# Altium footprint library Headers_Connectors.PcbLib: 45 footprints (part 3 of 3)
Each footprint in its own frame and in the unit in brackets; x right, y up, seen from the top. Pads: shape width x height; smd on the part's side, far side on the other; paste and mask are expansions set on the pad; w line width, h text height; cw(c..) or ccw(c..) is an arc to the next point about the centre after c.
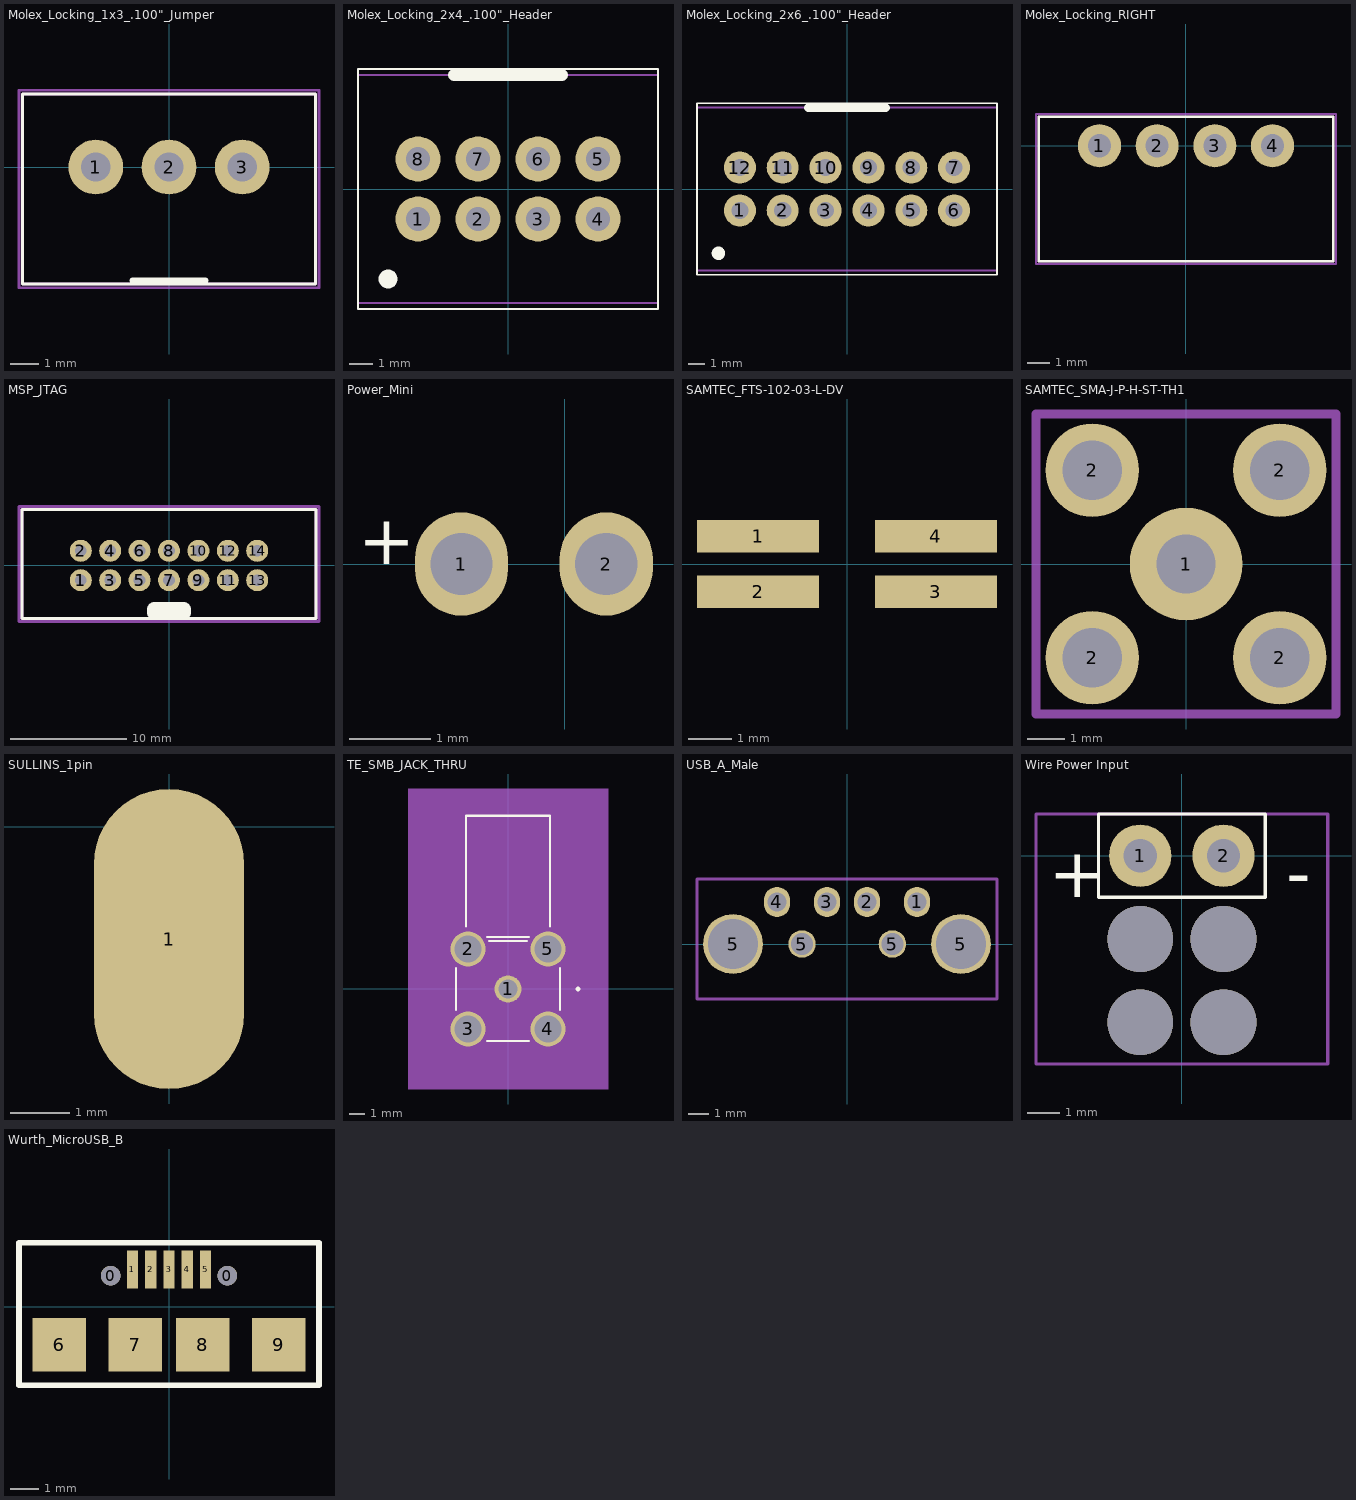
[diagram p2: the footprints below, top view; thin cyan lines are the x and y axes]

## Molex_Locking_1x3_.100"_Jumper [mm]
pads (3):
  round 1.9 hole 1.02: 1(-2.54,0) 2(0,0) 3(2.54,0)
Top Overlay:
  lines w0.1: -5.08,-4.064 5.08,-4.064 5.08,2.54 -5.08,2.54 -5.08,-4.064
  lines w0.2: -1.27,-3.937 1.27,-3.937
Mechanical 13:
  lines w0.1: -5.08,-4.064 5.08,-4.064 5.08,2.54 -5.08,2.54 -5.08,-4.064
Mechanical 15:
  lines w0.1: -5.207,-4.191 -5.207,2.667 5.207,2.667 5.207,-4.191 -5.207,-4.191
3D body "Molex_Locking_.100_3x1.stp": height 11.81, standoff -3.3, extent -5.08,-4.064 5.08,2.54

## Molex_Locking_2x4_.100"_Header [mm]
pads (8):
  round 1.9 hole 1.02: 1(-3.81,-1.27) 2(-1.27,-1.27) 3(1.27,-1.27) 4(3.81,-1.27) 5(3.81,1.27) 6(1.27,1.27) 7(-1.27,1.27) 8(-3.81,1.27)
Top Overlay:
  circle w0.4: c-5.08,-3.81 r0.2
  lines w0.1: -6.35,-5.08 -6.35,5.08 6.35,5.08 6.35,-5.08 -6.35,-5.08
  lines w0.508: -2.286,4.826 2.286,4.826
Mechanical 13:
  lines w0.1: -6.35,-4.826 -6.35,4.826 6.35,4.826 6.35,-4.826 -6.35,-4.826
Mechanical 15:
  lines w0.1: -6.35,-4.826 6.35,-4.826 6.35,4.826 -6.35,4.826 -6.35,-4.826
3D body "901301208.stp": height 11.04, standoff -2.76, extent -6.25,-4.875 6.25,4.875

## Molex_Locking_2x6_.100"_Header [mm]
pads (12):
  round 1.9 hole 1.02: 1(-6.35,-1.27) 2(-3.81,-1.27) 3(-1.27,-1.27) 4(1.27,-1.27) 5(3.81,-1.27) 6(6.35,-1.27) 7(6.35,1.27) 8(3.81,1.27) 9(1.27,1.27) 10(-1.27,1.27) 11(-3.81,1.27) 12(-6.35,1.27)
Top Overlay:
  circle w0.4: c-7.62,-3.81 r0.2
  lines w0.1: -8.89,-5.08 -8.89,5.08 8.89,5.08 8.89,-5.08 -8.89,-5.08
  lines w0.508: -2.286,4.826 2.286,4.826
Mechanical 13:
  lines w0.1: -8.89,-4.826 -8.89,4.826 8.89,4.826 8.89,-4.826 -8.89,-4.826
Mechanical 15:
  lines w0.1: -8.89,-4.826 8.89,-4.826 8.89,4.826 -8.89,4.826 -8.89,-4.826
3D body "901301212.stp": height 11.04, standoff -2.76, extent -8.79,-4.875 8.79,4.875

## Molex_Locking_RIGHT [mm]
pads (4):
  round 1.9 hole 1.02: 1(-3.81,0) 2(-1.27,0) 3(1.27,0) 4(3.81,0)
Top Overlay:
  lines w0.1: -6.477,-5.08 -6.477,1.27 6.477,1.27 6.477,-5.08 -6.477,-5.08
Mechanical 13:
  lines w0.1: -6.477,-5.08 -6.477,1.27 6.477,1.27 6.477,-5.08 -6.477,-5.08
Mechanical 15:
  lines w0.1: -6.604,-5.207 6.604,-5.207 6.604,1.397 -6.604,1.397 -6.604,-5.207
3D body "molexLockingRight.stp": height 7.06, standoff -3.22, extent -6.35,-12.827 6.35,0.762

## MSP_JTAG [mm]
pads (14):
  round 1.9 hole 1.02: 1(-7.62,-1.27) 2(-7.62,1.27) 3(-5.08,-1.27) 4(-5.08,1.27) 5(-2.54,-1.27) 6(-2.54,1.27) 7(0,-1.27) 8(0,1.27) 9(2.54,-1.27) 10(2.54,1.27) 11(5.08,-1.27) 12(5.08,1.27) 13(7.62,-1.27) 14(7.62,1.27)
Top Overlay:
  lines w0.254: -12.7,-4.572 12.7,-4.572 12.7,4.826 -12.7,4.826 -12.7,-4.572
  lines w1.27: -1.27,-4.064 -1.27,-3.81 1.27,-3.81 1.27,-4.064
Mechanical 13:
  lines w0.254: -12.7,-4.572 12.7,-4.572 12.7,4.826 -12.7,4.826 -12.7,-4.572
Mechanical 15:
  lines w0.254: -12.954,-4.826 -12.954,5.08 12.954,5.08 12.954,-4.826 -12.954,-4.826
3D body "2x7 .1in header male.stp": height 9.18, standoff -2.93, extent -12.72,-4.425 12.72,4.75

## Power_Mini [mil]
pads (2):
  oval 45x50 hole 30: 1(-50,0) 2(20,0)
Top Overlay:
  text "+" at -100,0 h24

## SAMTEC_FTS-102-03-L-DV [mil] "SAMTEC_FTS"
pads (4):
  rect 110x29 smd: 1(-80,25) 2(-80,-25) 3(80,-25) 4(80,25)
3D body "FTS-102-03-L-DV.stp": height 114, standoff -1, extent -115,-49.99 115,50.01

## SAMTEC_SMA-J-P-H-ST-TH1 [mil]
pads (5):
  round 120 hole 63: 1(0,0)
  round 100 hole 63: 2(-100,-100) 2(-100,100) 2(100,-100) 2(100,100)
Mechanical 1:
  lines w10: -160,-160 160,-160 160,160 -160,160 -160,-160
3D body "SMA-J-P-H-ST-TH1.stp": height 375.98, standoff -155.51, extent -137.79,-137.79 137.8,137.8

## SULLINS_1pin [mm]
pads (1):
  oval 2.54x5.08 smd: 1(0,-1.905)
3D body "_ _C01SABN-M30.STEP": height 10.21, standoff 0, extent -1.27,-4.064 1.27,1.27

## TE_SMB_JACK_THRU [mil] "SMB Connector Jack, Male Pin 50Ohm Through Hole, Right Angle Solder"
height 279.53
pads (5):
  round 67.5 hole 48 mask+0: 1(0,0)
  round 87 hole 67: 2(-100,100) 3(-100,-100) 4(100,-100) 5(100,100)
Top Overlay:
  circle w6: c175,0 r3
  lines w6: -130,-52 -130,52 ; -105,156.38 -105,433.15 105,433.15 105,156.38 ; -52,-130 52,-130 ; -52,130 52,130 ; -47.05,120 47.05,120 ; 130,-52 130,52
Mechanical 5:
  region: -250,500 250,500 250,-250 -250,-250
Mechanical 13:
  circle w0: c110,0 r3
  lines w1: -125,-125 125,-125 125,125 -125,125 -125,-125 ; -100,125 -100,428.15 100,428.15 100,125 -100,125
Mechanical 15:
  region: 170,-148.5 -170,-148.5 -170,451.65 170,451.65
  lines w6: -170,-148.5 -170,451.65 170,451.65 170,-148.5 -170,-148.5
3D body "c-1-1337481-0-f-3d.stp": height 283.92, standoff -149.15, extent -125,-125.35 125,428

## USB_A_Male [mm]
pads (8):
  oval 1.3x1.5 hole 0.94: 1(3.5,2.1) 2(1,2.1) 3(-1,2.1) 4(-3.5,2.1)
  round 3 hole 2.5: 5(-5.7,0) 5(5.7,0)
  round 1.372 hole 1.1: 5(-2.25,0) 5(2.27,0)
Mechanical 15:
  lines w0.127: -7.5,-2.75 7.5,-2.75 7.5,3.25 -7.5,3.25 -7.5,-2.75
3D body "USB_A.stp": height 3.25, standoff -2.72, extent -6.348,-17.775 6.348,2.25

## Wire Power Input [mm]
pads (2):
  round 1.9 hole 1.02: 1(-1.27,0) 2(1.27,0)
via -1.27,-2.54 diameter 2 hole 2
via -1.27,-5.08 diameter 2 hole 2
via 1.27,-5.08 diameter 2 hole 2
via 1.27,-2.54 diameter 2 hole 2
Top Overlay:
  lines w0.1: -2.54,-1.27 2.54,-1.27 2.54,1.27 -2.54,1.27 -2.54,-1.27
  text "-" at 3.175,-1.27 h1.52
  text "+" at -4.064,-1.27 h1.52
Mechanical 15:
  lines w0.1: -4.445,-6.35 4.445,-6.35 4.445,1.27 -4.445,1.27 -4.445,-6.35

## Wurth_MicroUSB_B [mm] "MicroUSB_B"
pads (11):
  round 0.7 hole 0.7 unplated mask+0.025: 0(-2.075,1.112) 0(2.075,1.112)
  rect 0.4x1.35 smd mask+0.025: 1(-1.3,1.338) 2(-0.65,1.338) 3(0,1.338) 4(0.65,1.338) 5(1.3,1.338)
  rect 1.9x1.9 smd mask+0.051: 6(-3.9,-1.338) 7(-1.2,-1.338) 8(1.2,-1.338) 9(3.9,-1.338)
Top Overlay:
  lines w0.2: -5.334,-2.788 -5.334,2.286 5.334,2.286 5.334,-2.788 -5.334,-2.788
3D body "Wurth_MicroUSB_B.stp": height 2.78, standoff -0.53, extent -4.012,-4.12 3.988,1.803